# Altium schematic symbol library 10AS066H2F34I2SG.SchLib: 1 symbol
Pins are listed as number, name and electrical type; pins without a type are passive.

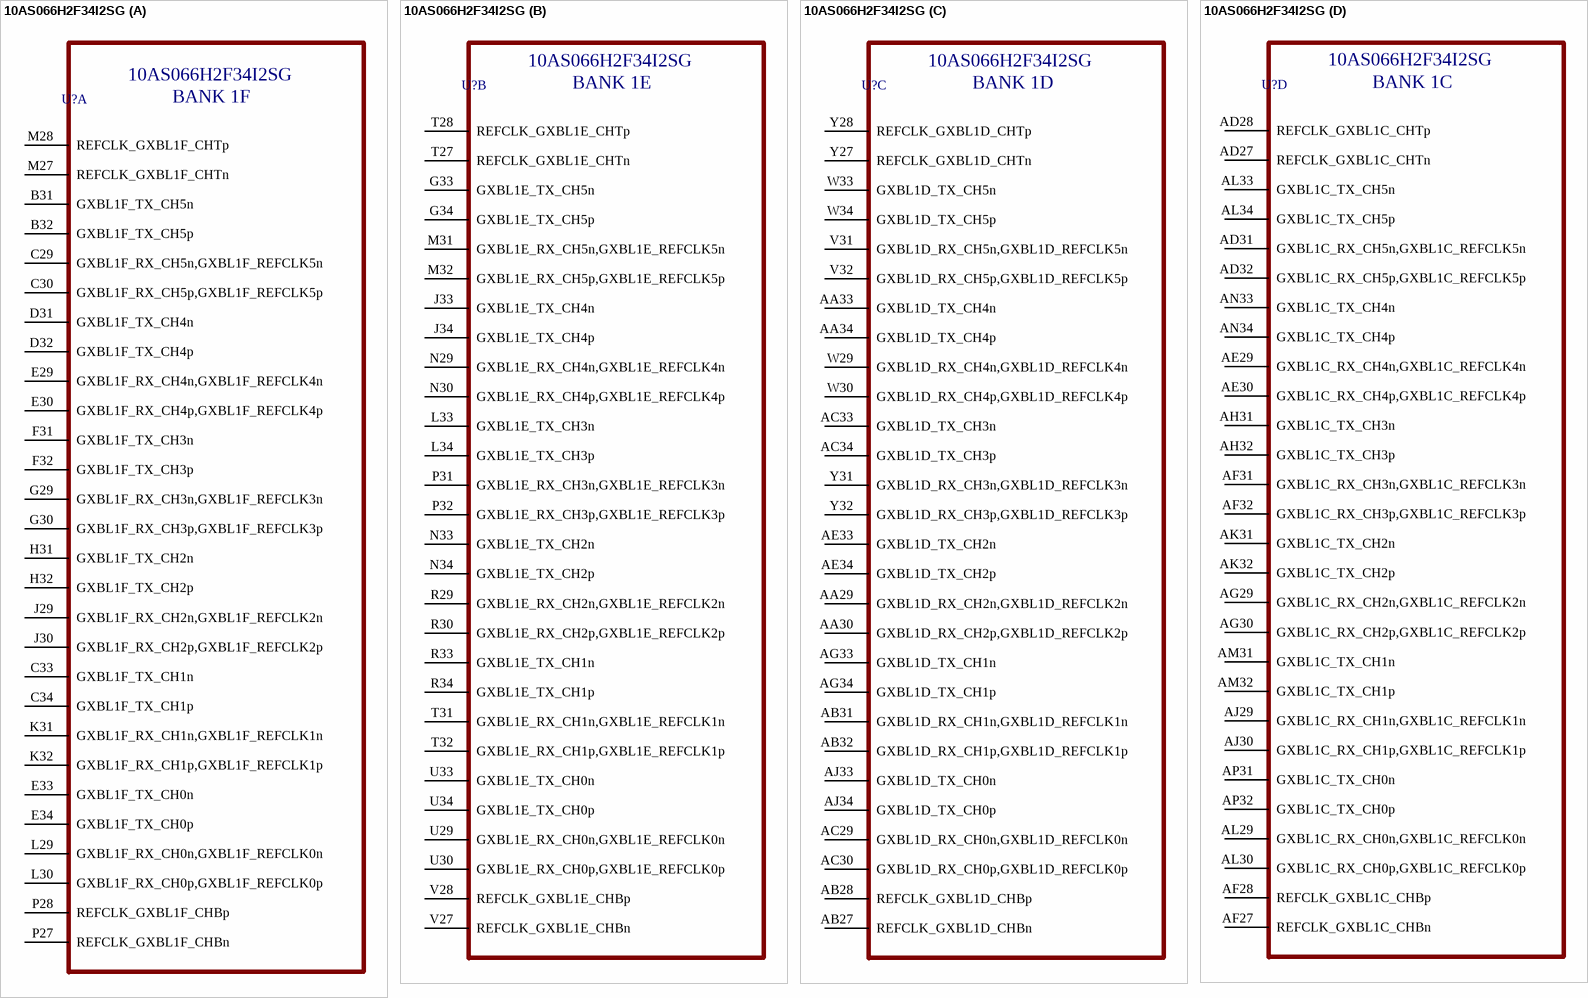
[diagram p0: symbol 10AS066H2F34I2SG]

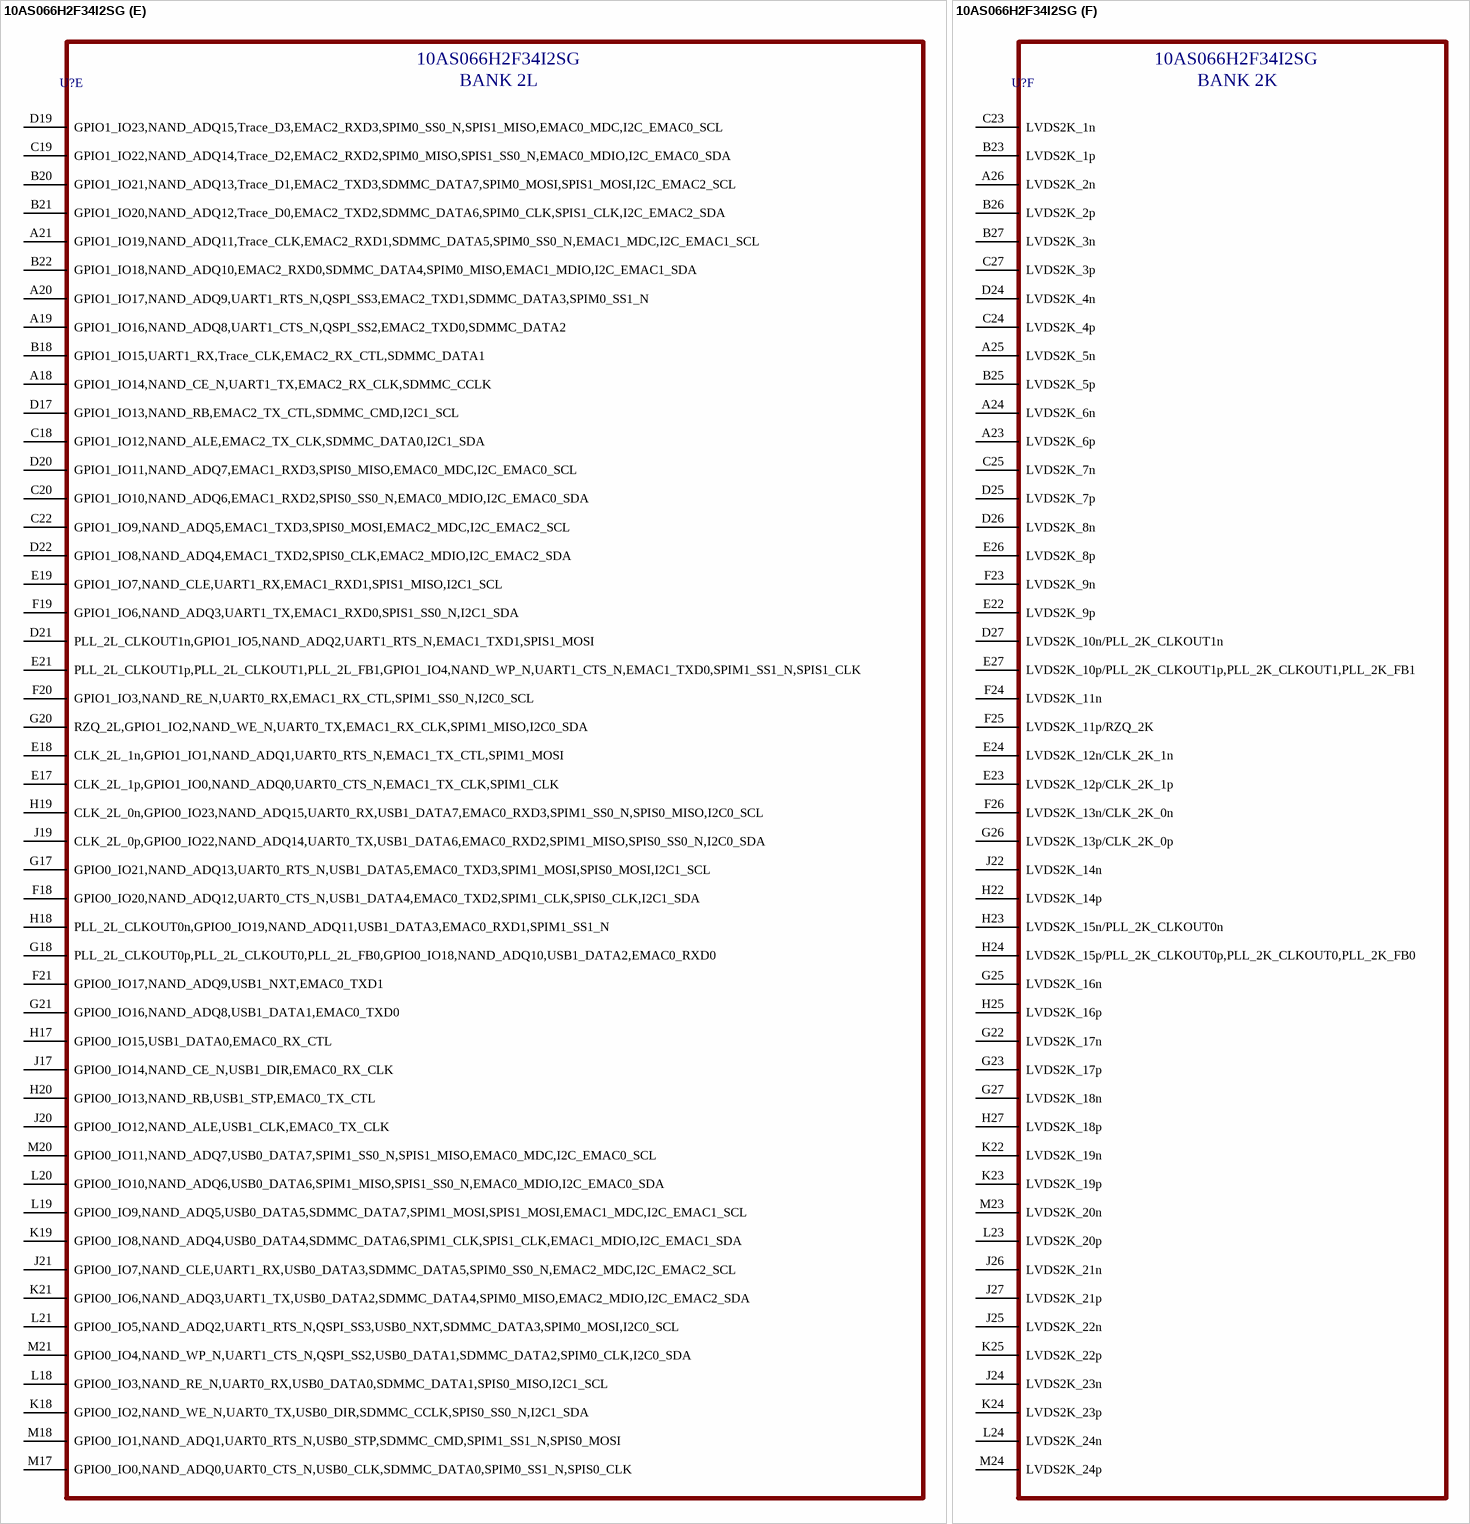
[diagram p1: symbol 10AS066H2F34I2SG]

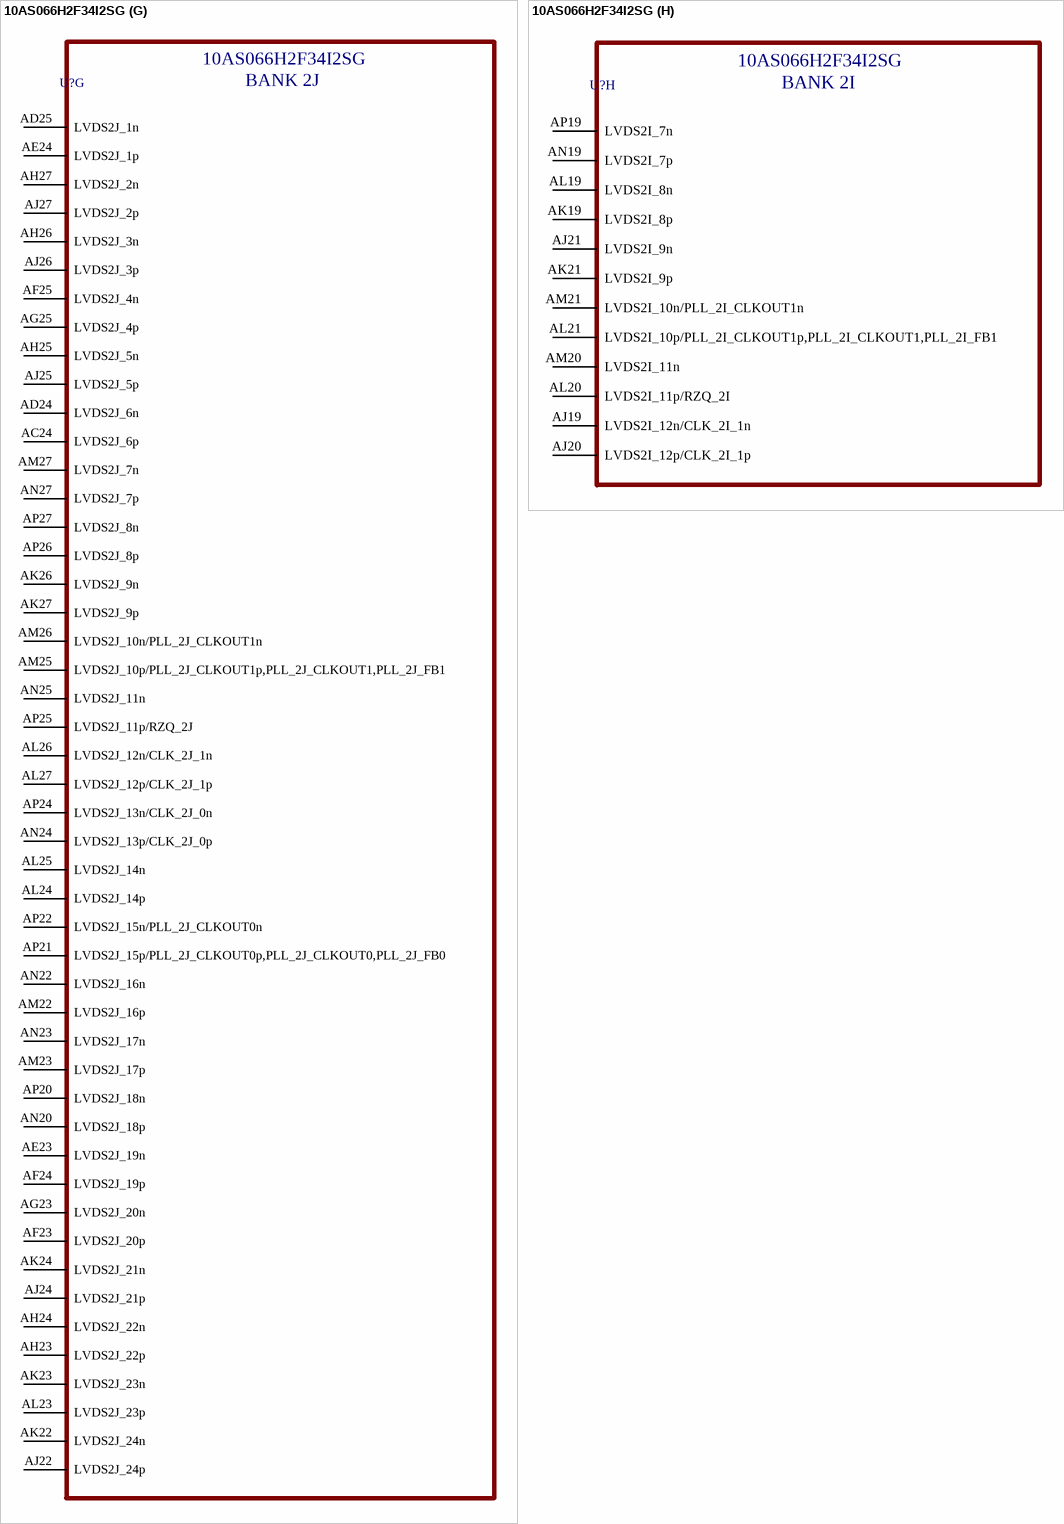
[diagram p2: symbol 10AS066H2F34I2SG]

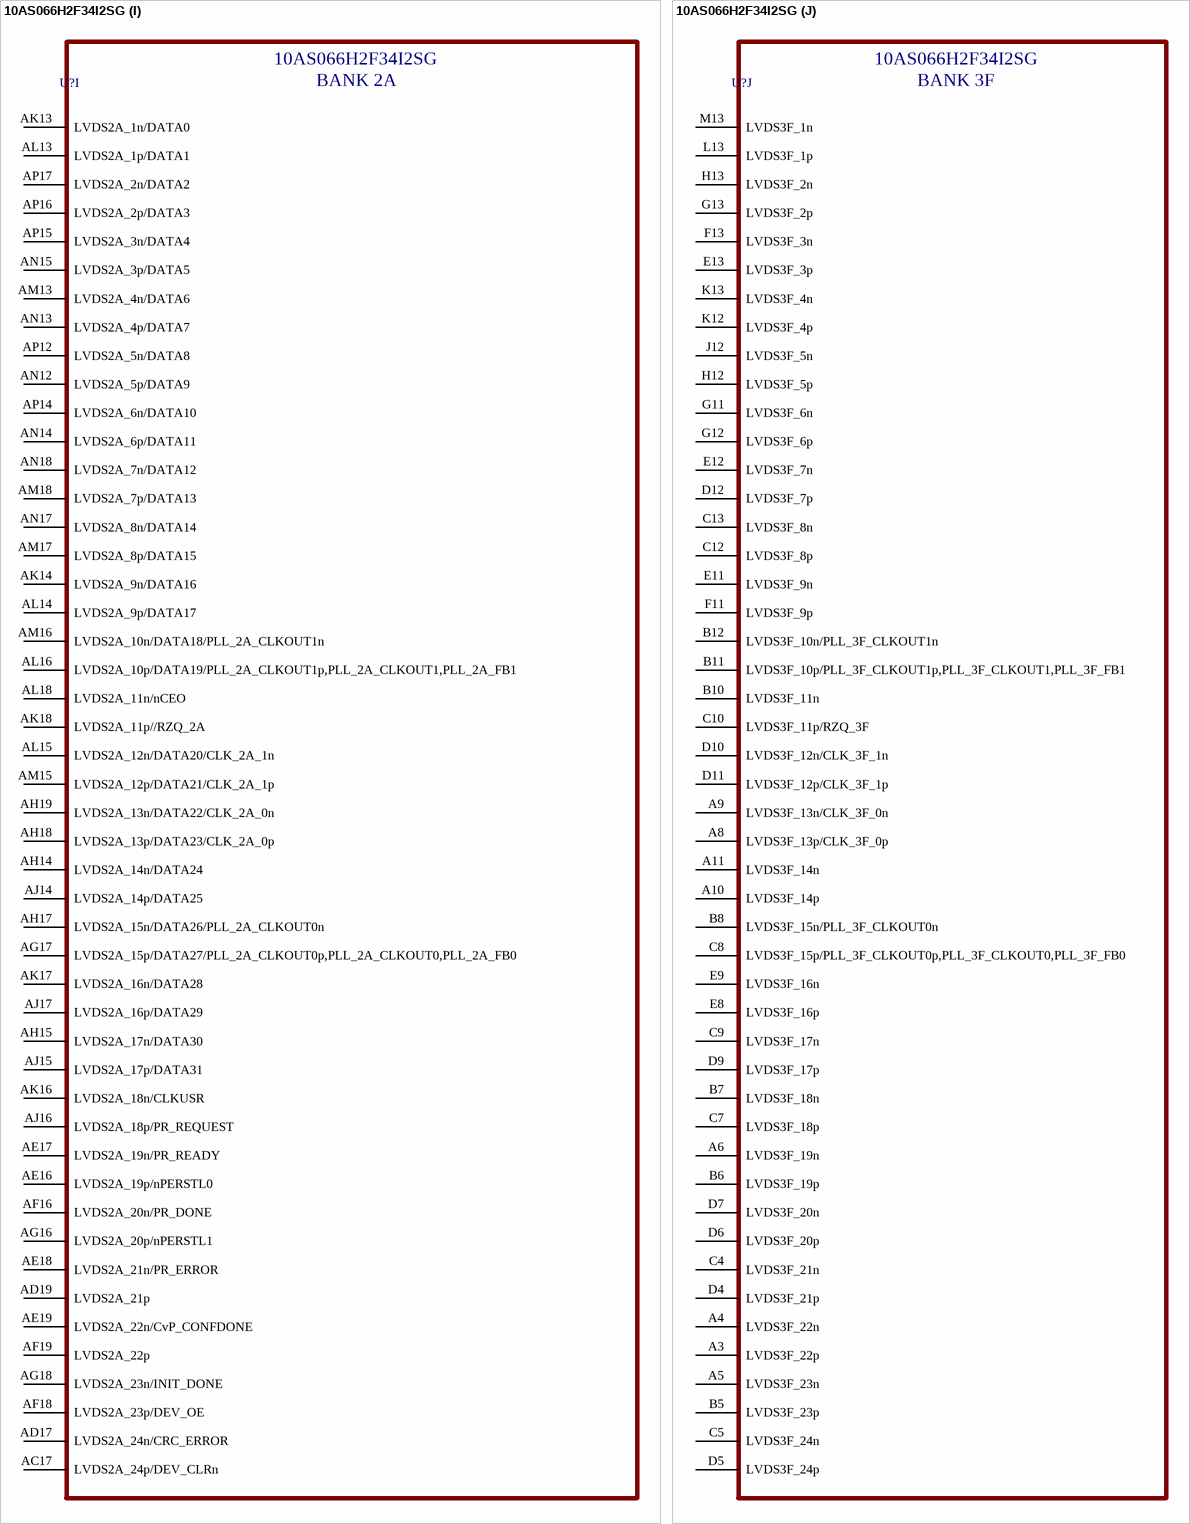
[diagram p3: symbol 10AS066H2F34I2SG]

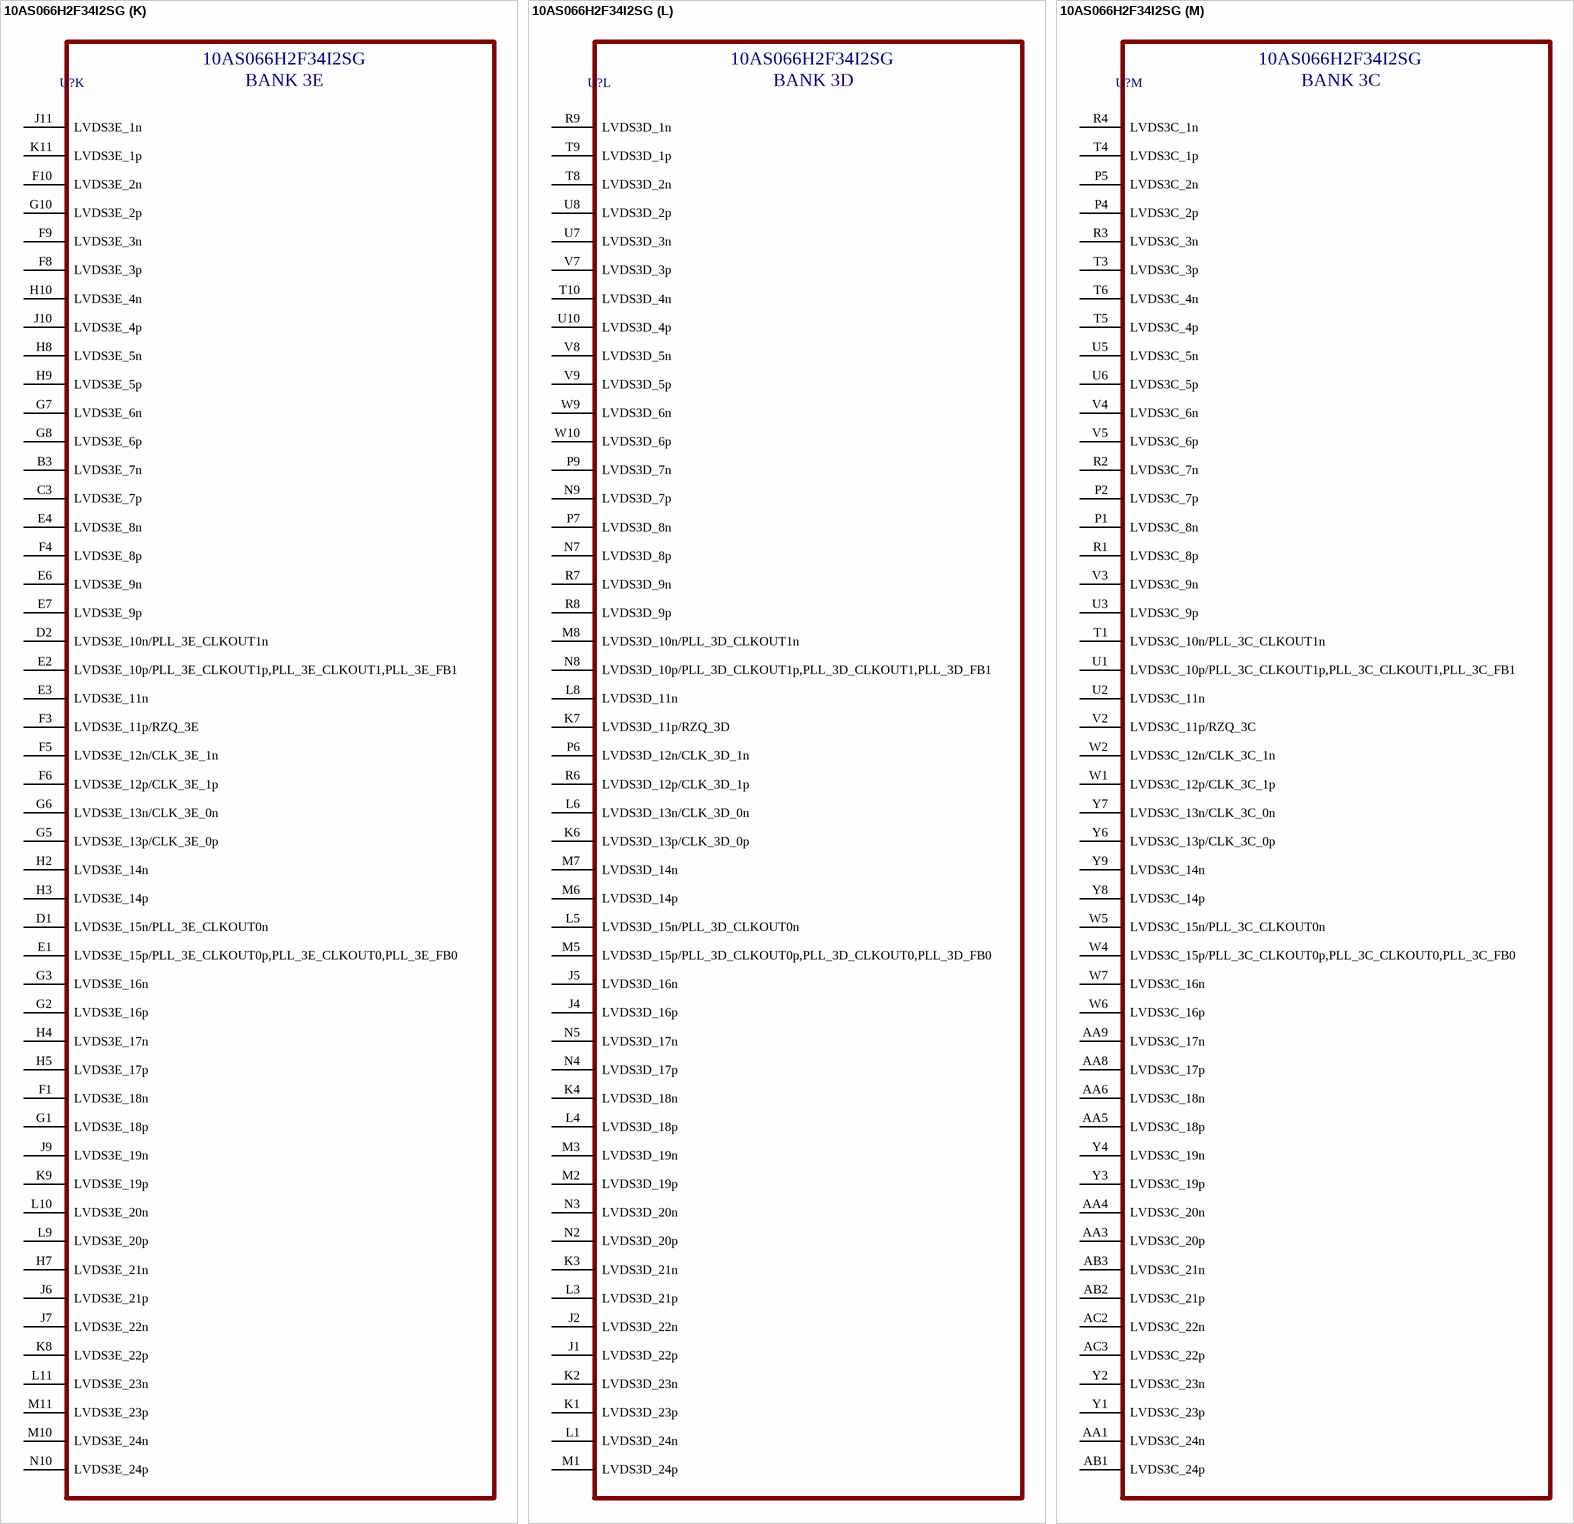
[diagram p4: symbol 10AS066H2F34I2SG]

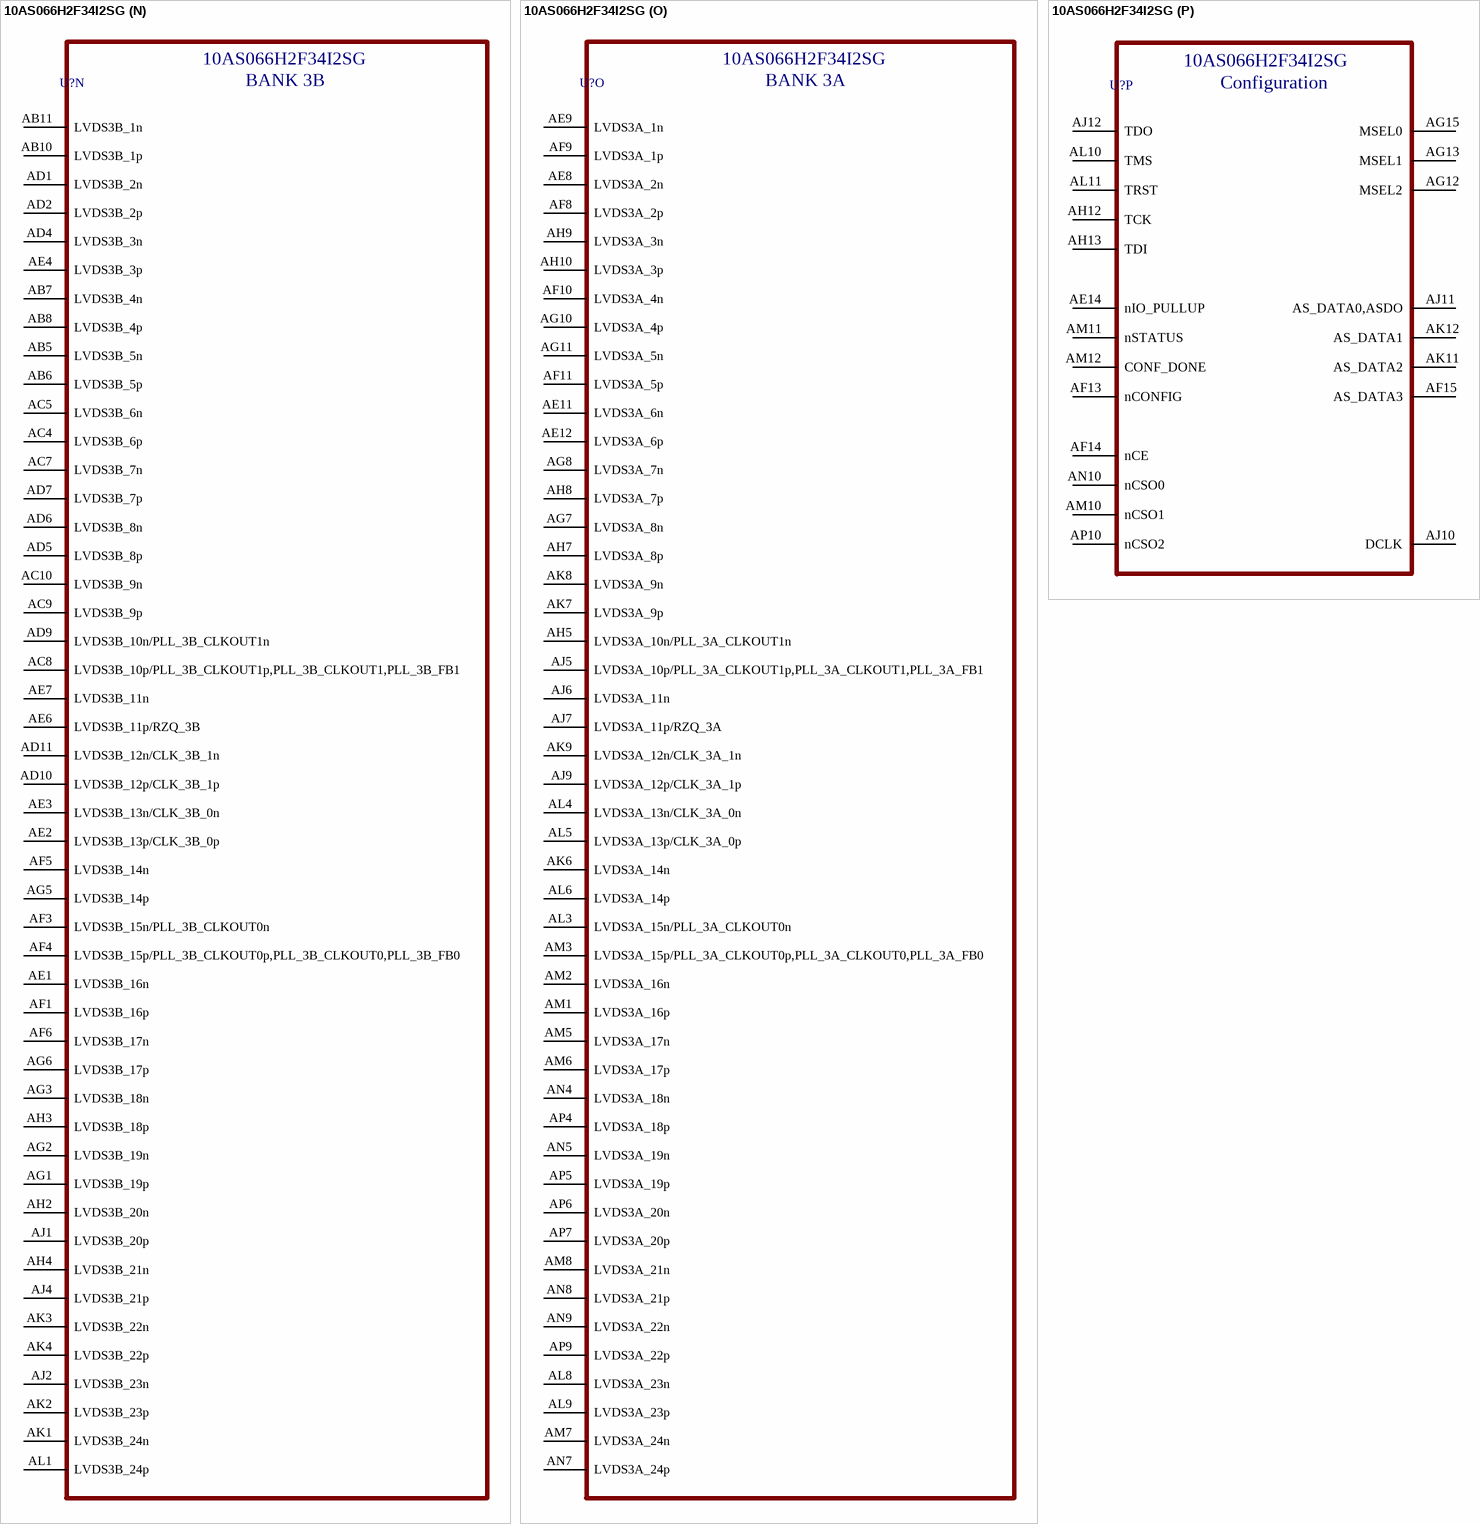
[diagram p5: symbol 10AS066H2F34I2SG]

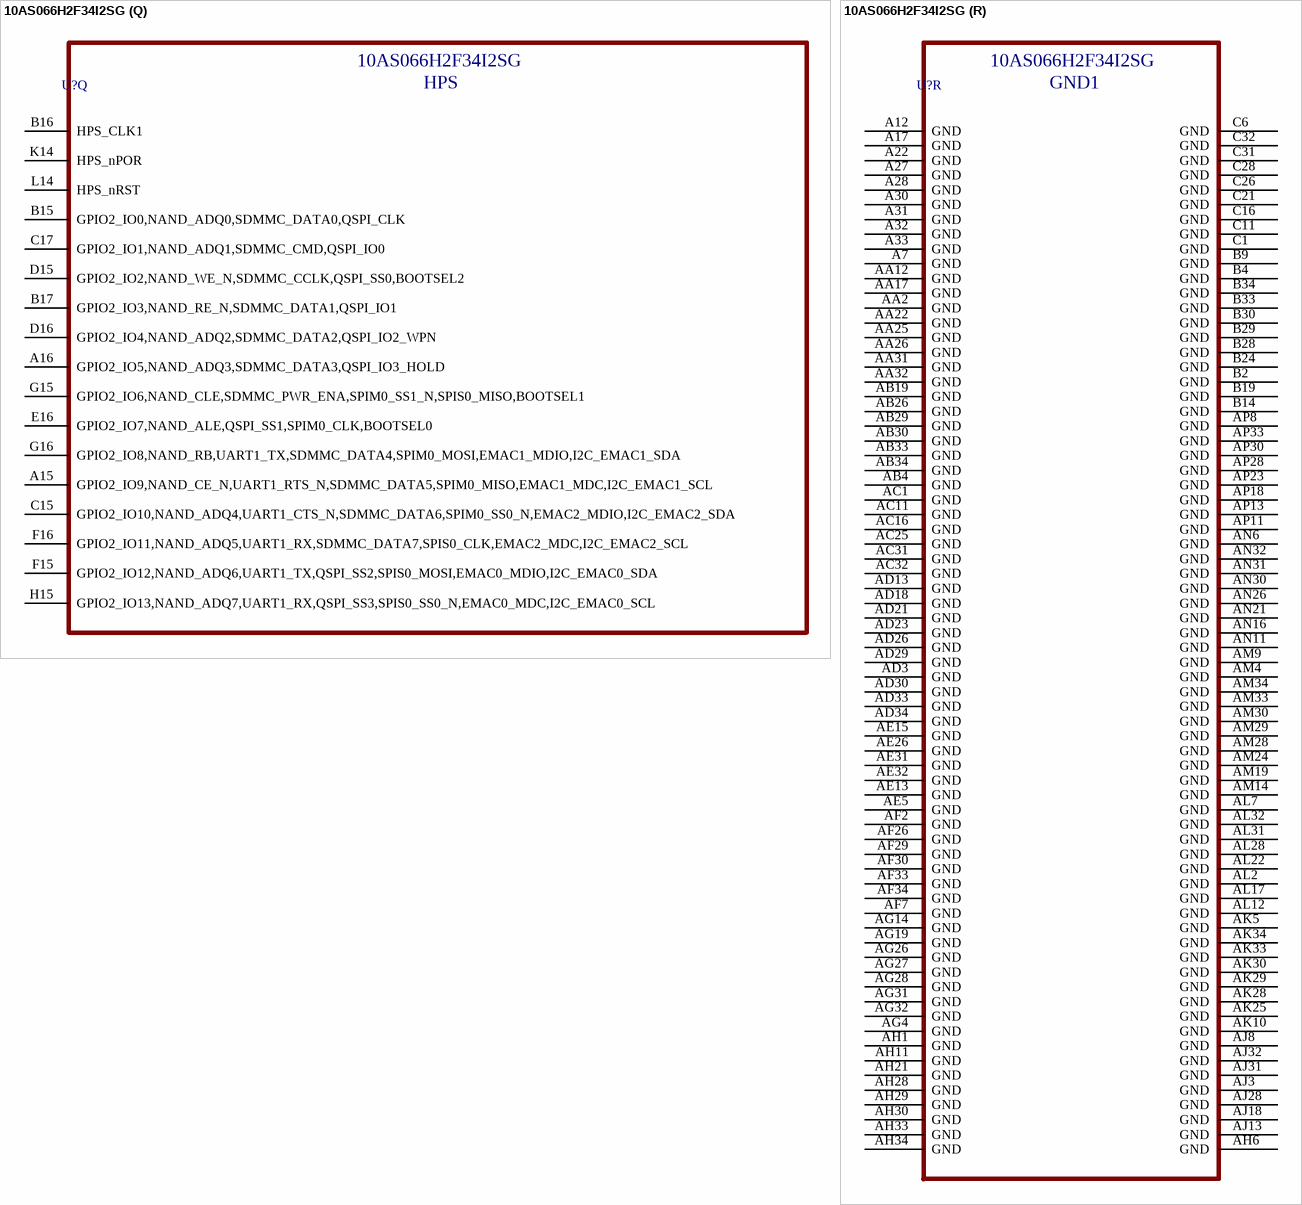
[diagram p6: symbol 10AS066H2F34I2SG]

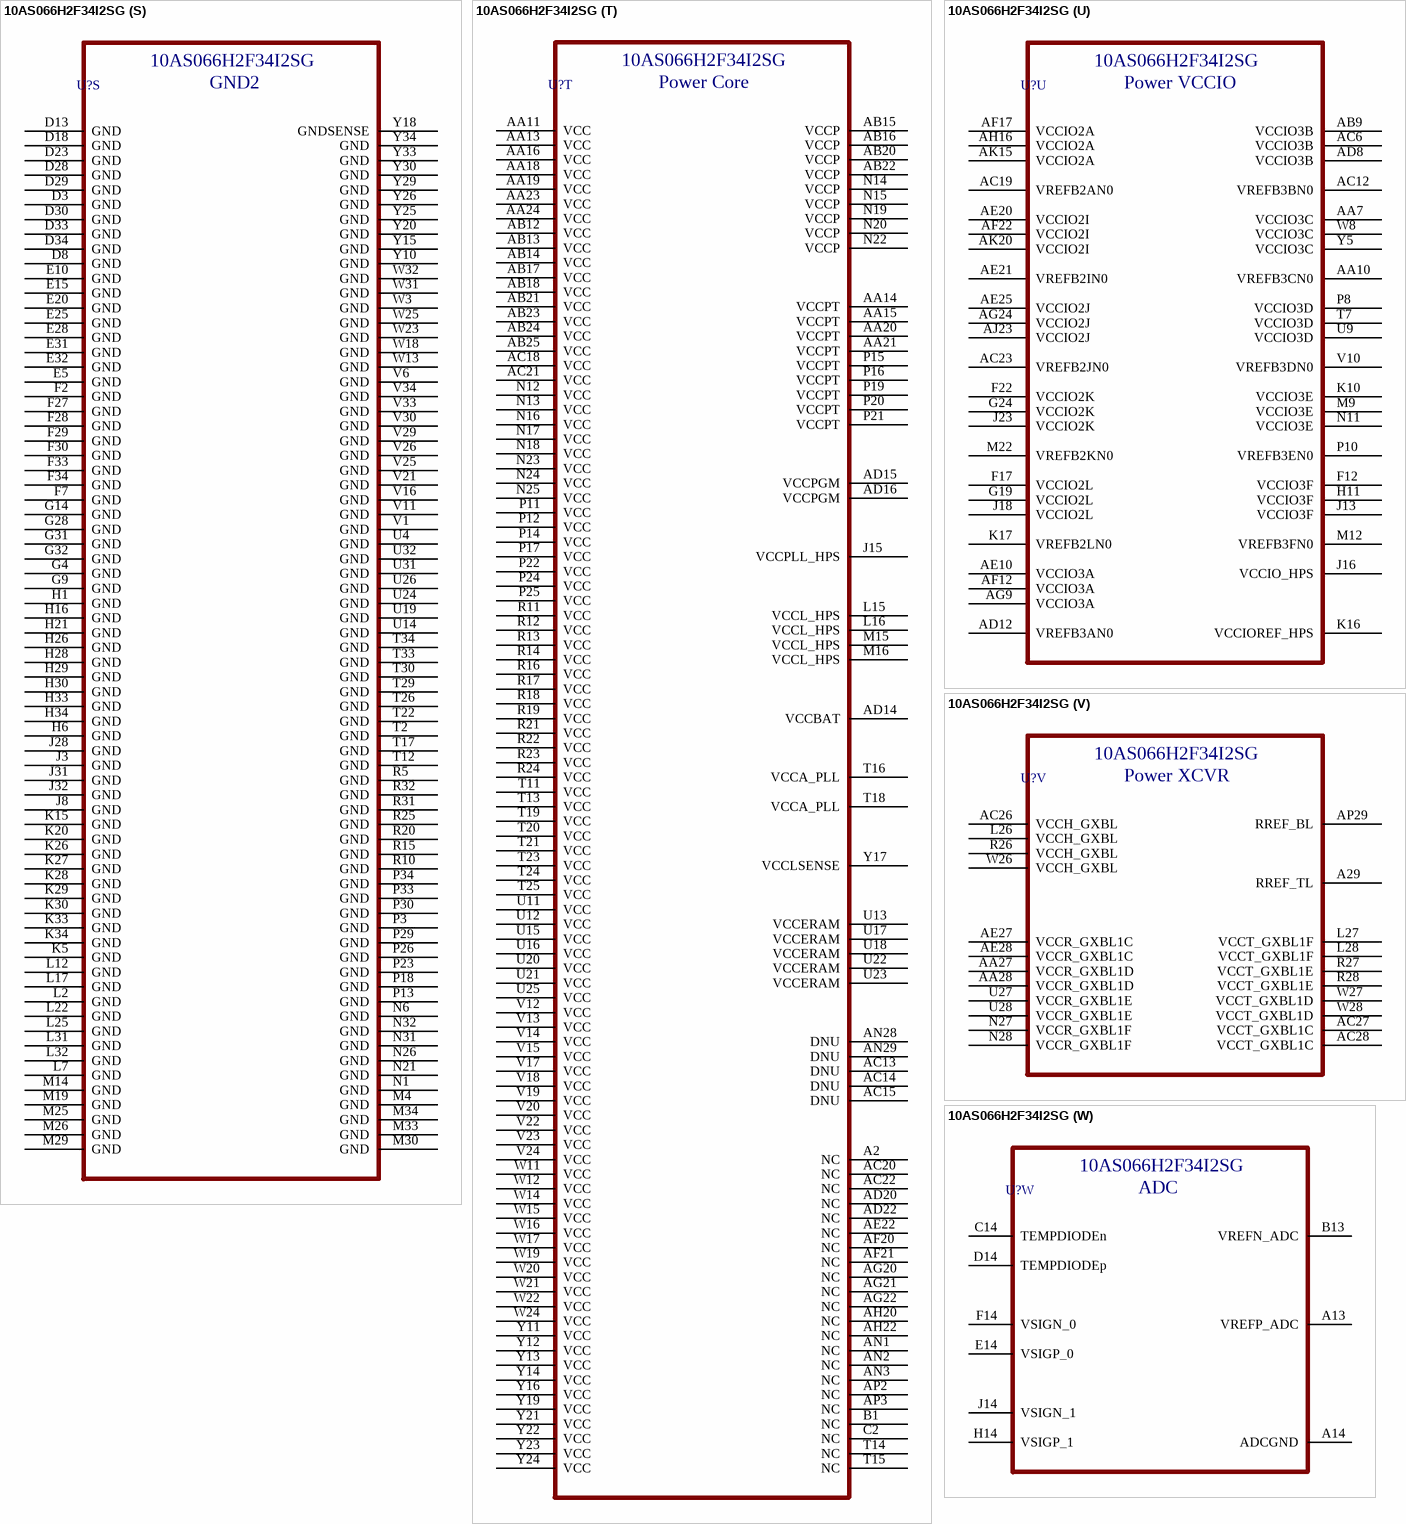
[diagram p7: symbol 10AS066H2F34I2SG]

## 10AS066H2F34I2SG
designator U?
part A pins: B31 GXBL1F_TX_CH5n, B32 GXBL1F_TX_CH5p, C29 GXBL1F_RX_CH5n,GXBL1F_REFCLK5n, C30 GXBL1F_RX_CH5p,GXBL1F_REFCLK5p, C33 GXBL1F_TX_CH1n, C34 GXBL1F_TX_CH1p, D31 GXBL1F_TX_CH4n, D32 GXBL1F_TX_CH4p, E29 GXBL1F_RX_CH4n,GXBL1F_REFCLK4n, E30 GXBL1F_RX_CH4p,GXBL1F_REFCLK4p, E33 GXBL1F_TX_CH0n, E34 GXBL1F_TX_CH0p, F31 GXBL1F_TX_CH3n, F32 GXBL1F_TX_CH3p, G29 GXBL1F_RX_CH3n,GXBL1F_REFCLK3n, G30 GXBL1F_RX_CH3p,GXBL1F_REFCLK3p, H31 GXBL1F_TX_CH2n, H32 GXBL1F_TX_CH2p, J29 GXBL1F_RX_CH2n,GXBL1F_REFCLK2n, J30 GXBL1F_RX_CH2p,GXBL1F_REFCLK2p, K31 GXBL1F_RX_CH1n,GXBL1F_REFCLK1n, K32 GXBL1F_RX_CH1p,GXBL1F_REFCLK1p, L29 GXBL1F_RX_CH0n,GXBL1F_REFCLK0n, L30 GXBL1F_RX_CH0p,GXBL1F_REFCLK0p, M27 REFCLK_GXBL1F_CHTn, M28 REFCLK_GXBL1F_CHTp, P27 REFCLK_GXBL1F_CHBn, P28 REFCLK_GXBL1F_CHBp
part B pins: G33 GXBL1E_TX_CH5n, G34 GXBL1E_TX_CH5p, J33 GXBL1E_TX_CH4n, J34 GXBL1E_TX_CH4p, L33 GXBL1E_TX_CH3n, L34 GXBL1E_TX_CH3p, M31 GXBL1E_RX_CH5n,GXBL1E_REFCLK5n, M32 GXBL1E_RX_CH5p,GXBL1E_REFCLK5p, N29 GXBL1E_RX_CH4n,GXBL1E_REFCLK4n, N30 GXBL1E_RX_CH4p,GXBL1E_REFCLK4p, N33 GXBL1E_TX_CH2n, N34 GXBL1E_TX_CH2p, P31 GXBL1E_RX_CH3n,GXBL1E_REFCLK3n, P32 GXBL1E_RX_CH3p,GXBL1E_REFCLK3p, R29 GXBL1E_RX_CH2n,GXBL1E_REFCLK2n, R30 GXBL1E_RX_CH2p,GXBL1E_REFCLK2p, R33 GXBL1E_TX_CH1n, R34 GXBL1E_TX_CH1p, T27 REFCLK_GXBL1E_CHTn, T28 REFCLK_GXBL1E_CHTp, T31 GXBL1E_RX_CH1n,GXBL1E_REFCLK1n, T32 GXBL1E_RX_CH1p,GXBL1E_REFCLK1p, U29 GXBL1E_RX_CH0n,GXBL1E_REFCLK0n, U30 GXBL1E_RX_CH0p,GXBL1E_REFCLK0p, U33 GXBL1E_TX_CH0n, U34 GXBL1E_TX_CH0p, V27 REFCLK_GXBL1E_CHBn, V28 REFCLK_GXBL1E_CHBp
part C pins: AA29 GXBL1D_RX_CH2n,GXBL1D_REFCLK2n, AA30 GXBL1D_RX_CH2p,GXBL1D_REFCLK2p, AA33 GXBL1D_TX_CH4n, AA34 GXBL1D_TX_CH4p, AB27 REFCLK_GXBL1D_CHBn, AB28 REFCLK_GXBL1D_CHBp, AB31 GXBL1D_RX_CH1n,GXBL1D_REFCLK1n, AB32 GXBL1D_RX_CH1p,GXBL1D_REFCLK1p, AC29 GXBL1D_RX_CH0n,GXBL1D_REFCLK0n, AC30 GXBL1D_RX_CH0p,GXBL1D_REFCLK0p, AC33 GXBL1D_TX_CH3n, AC34 GXBL1D_TX_CH3p, AE33 GXBL1D_TX_CH2n, AE34 GXBL1D_TX_CH2p, AG33 GXBL1D_TX_CH1n, AG34 GXBL1D_TX_CH1p, AJ33 GXBL1D_TX_CH0n, AJ34 GXBL1D_TX_CH0p, V31 GXBL1D_RX_CH5n,GXBL1D_REFCLK5n, V32 GXBL1D_RX_CH5p,GXBL1D_REFCLK5p, W29 GXBL1D_RX_CH4n,GXBL1D_REFCLK4n, W30 GXBL1D_RX_CH4p,GXBL1D_REFCLK4p, W33 GXBL1D_TX_CH5n, W34 GXBL1D_TX_CH5p, Y27 REFCLK_GXBL1D_CHTn, Y28 REFCLK_GXBL1D_CHTp, Y31 GXBL1D_RX_CH3n,GXBL1D_REFCLK3n, Y32 GXBL1D_RX_CH3p,GXBL1D_REFCLK3p
part D pins: AD27 REFCLK_GXBL1C_CHTn, AD28 REFCLK_GXBL1C_CHTp, AD31 GXBL1C_RX_CH5n,GXBL1C_REFCLK5n, AD32 GXBL1C_RX_CH5p,GXBL1C_REFCLK5p, AE29 GXBL1C_RX_CH4n,GXBL1C_REFCLK4n, AE30 GXBL1C_RX_CH4p,GXBL1C_REFCLK4p, AF27 REFCLK_GXBL1C_CHBn, AF28 REFCLK_GXBL1C_CHBp, AF31 GXBL1C_RX_CH3n,GXBL1C_REFCLK3n, AF32 GXBL1C_RX_CH3p,GXBL1C_REFCLK3p, AG29 GXBL1C_RX_CH2n,GXBL1C_REFCLK2n, AG30 GXBL1C_RX_CH2p,GXBL1C_REFCLK2p, AH31 GXBL1C_TX_CH3n, AH32 GXBL1C_TX_CH3p, AJ29 GXBL1C_RX_CH1n,GXBL1C_REFCLK1n, AJ30 GXBL1C_RX_CH1p,GXBL1C_REFCLK1p, AK31 GXBL1C_TX_CH2n, AK32 GXBL1C_TX_CH2p, AL29 GXBL1C_RX_CH0n,GXBL1C_REFCLK0n, AL30 GXBL1C_RX_CH0p,GXBL1C_REFCLK0p, AL33 GXBL1C_TX_CH5n, AL34 GXBL1C_TX_CH5p, AM31 GXBL1C_TX_CH1n, AM32 GXBL1C_TX_CH1p, AN33 GXBL1C_TX_CH4n, AN34 GXBL1C_TX_CH4p, AP31 GXBL1C_TX_CH0n, AP32 GXBL1C_TX_CH0p
part E pins: A18 GPIO1_IO14,NAND_CE_N,UART1_TX,EMAC2_RX_CLK,SDMMC_CCLK, A19 GPIO1_IO16,NAND_ADQ8,UART1_CTS_N,QSPI_SS2,EMAC2_TXD0,SDMMC_DATA2, A20 GPIO1_IO17,NAND_ADQ9,UART1_RTS_N,QSPI_SS3,EMAC2_TXD1,SDMMC_DATA3,SPIM0_SS1_N, A21 GPIO1_IO19,NAND_ADQ11,Trace_CLK,EMAC2_RXD1,SDMMC_DATA5,SPIM0_SS0_N,EMAC1_MDC,I2C_EMAC1_SCL, B18 GPIO1_IO15,UART1_RX,Trace_CLK,EMAC2_RX_CTL,SDMMC_DATA1, B20 GPIO1_IO21,NAND_ADQ13,Trace_D1,EMAC2_TXD3,SDMMC_DATA7,SPIM0_MOSI,SPIS1_MOSI,I2C_EMAC2_SCL, B21 GPIO1_IO20,NAND_ADQ12,Trace_D0,EMAC2_TXD2,SDMMC_DATA6,SPIM0_CLK,SPIS1_CLK,I2C_EMAC2_SDA, B22 GPIO1_IO18,NAND_ADQ10,EMAC2_RXD0,SDMMC_DATA4,SPIM0_MISO,EMAC1_MDIO,I2C_EMAC1_SDA, C18 GPIO1_IO12,NAND_ALE,EMAC2_TX_CLK,SDMMC_DATA0,I2C1_SDA, C19 GPIO1_IO22,NAND_ADQ14,Trace_D2,EMAC2_RXD2,SPIM0_MISO,SPIS1_SS0_N,EMAC0_MDIO,I2C_EMAC0_SDA, C20 GPIO1_IO10,NAND_ADQ6,EMAC1_RXD2,SPIS0_SS0_N,EMAC0_MDIO,I2C_EMAC0_SDA, C22 GPIO1_IO9,NAND_ADQ5,EMAC1_TXD3,SPIS0_MOSI,EMAC2_MDC,I2C_EMAC2_SCL, D17 GPIO1_IO13,NAND_RB,EMAC2_TX_CTL,SDMMC_CMD,I2C1_SCL, D19 GPIO1_IO23,NAND_ADQ15,Trace_D3,EMAC2_RXD3,SPIM0_SS0_N,SPIS1_MISO,EMAC0_MDC,I2C_EMAC0_SCL, D20 GPIO1_IO11,NAND_ADQ7,EMAC1_RXD3,SPIS0_MISO,EMAC0_MDC,I2C_EMAC0_SCL, D21 PLL_2L_CLKOUT1n,GPIO1_IO5,NAND_ADQ2,UART1_RTS_N,EMAC1_TXD1,SPIS1_MOSI, D22 GPIO1_IO8,NAND_ADQ4,EMAC1_TXD2,SPIS0_CLK,EMAC2_MDIO,I2C_EMAC2_SDA, E17 CLK_2L_1p,GPIO1_IO0,NAND_ADQ0,UART0_CTS_N,EMAC1_TX_CLK,SPIM1_CLK, E18 CLK_2L_1n,GPIO1_IO1,NAND_ADQ1,UART0_RTS_N,EMAC1_TX_CTL,SPIM1_MOSI, E19 GPIO1_IO7,NAND_CLE,UART1_RX,EMAC1_RXD1,SPIS1_MISO,I2C1_SCL, E21 PLL_2L_CLKOUT1p,PLL_2L_CLKOUT1,PLL_2L_FB1,GPIO1_IO4,NAND_WP_N,UART1_CTS_N,EMAC1_TXD0,SPIM1_SS1_N,SPIS1_CLK, F18 GPIO0_IO20,NAND_ADQ12,UART0_CTS_N,USB1_DATA4,EMAC0_TXD2,SPIM1_CLK,SPIS0_CLK,I2C1_SDA, F19 GPIO1_IO6,NAND_ADQ3,UART1_TX,EMAC1_RXD0,SPIS1_SS0_N,I2C1_SDA, F20 GPIO1_IO3,NAND_RE_N,UART0_RX,EMAC1_RX_CTL,SPIM1_SS0_N,I2C0_SCL, F21 GPIO0_IO17,NAND_ADQ9,USB1_NXT,EMAC0_TXD1, G17 GPIO0_IO21,NAND_ADQ13,UART0_RTS_N,USB1_DATA5,EMAC0_TXD3,SPIM1_MOSI,SPIS0_MOSI,I2C1_SCL, G18 PLL_2L_CLKOUT0p,PLL_2L_CLKOUT0,PLL_2L_FB0,GPIO0_IO18,NAND_ADQ10,USB1_DATA2,EMAC0_RXD0, G20 RZQ_2L,GPIO1_IO2,NAND_WE_N,UART0_TX,EMAC1_RX_CLK,SPIM1_MISO,I2C0_SDA, G21 GPIO0_IO16,NAND_ADQ8,USB1_DATA1,EMAC0_TXD0, H17 GPIO0_IO15,USB1_DATA0,EMAC0_RX_CTL, H18 PLL_2L_CLKOUT0n,GPIO0_IO19,NAND_ADQ11,USB1_DATA3,EMAC0_RXD1,SPIM1_SS1_N, H19 CLK_2L_0n,GPIO0_IO23,NAND_ADQ15,UART0_RX,USB1_DATA7,EMAC0_RXD3,SPIM1_SS0_N,SPIS0_MISO,I2C0_SCL, H20 GPIO0_IO13,NAND_RB,USB1_STP,EMAC0_TX_CTL, J17 GPIO0_IO14,NAND_CE_N,USB1_DIR,EMAC0_RX_CLK, J19 CLK_2L_0p,GPIO0_IO22,NAND_ADQ14,UART0_TX,USB1_DATA6,EMAC0_RXD2,SPIM1_MISO,SPIS0_SS0_N,I2C0_SDA, J20 GPIO0_IO12,NAND_ALE,USB1_CLK,EMAC0_TX_CLK, J21 GPIO0_IO7,NAND_CLE,UART1_RX,USB0_DATA3,SDMMC_DATA5,SPIM0_SS0_N,EMAC2_MDC,I2C_EMAC2_SCL, K18 GPIO0_IO2,NAND_WE_N,UART0_TX,USB0_DIR,SDMMC_CCLK,SPIS0_SS0_N,I2C1_SDA, K19 GPIO0_IO8,NAND_ADQ4,USB0_DATA4,SDMMC_DATA6,SPIM1_CLK,SPIS1_CLK,EMAC1_MDIO,I2C_EMAC1_SDA, K21 GPIO0_IO6,NAND_ADQ3,UART1_TX,USB0_DATA2,SDMMC_DATA4,SPIM0_MISO,EMAC2_MDIO,I2C_EMAC2_SDA, L18 GPIO0_IO3,NAND_RE_N,UART0_RX,USB0_DATA0,SDMMC_DATA1,SPIS0_MISO,I2C1_SCL, L19 GPIO0_IO9,NAND_ADQ5,USB0_DATA5,SDMMC_DATA7,SPIM1_MOSI,SPIS1_MOSI,EMAC1_MDC,I2C_EMAC1_SCL, L20 GPIO0_IO10,NAND_ADQ6,USB0_DATA6,SPIM1_MISO,SPIS1_SS0_N,EMAC0_MDIO,I2C_EMAC0_SDA, L21 GPIO0_IO5,NAND_ADQ2,UART1_RTS_N,QSPI_SS3,USB0_NXT,SDMMC_DATA3,SPIM0_MOSI,I2C0_SCL, M17 GPIO0_IO0,NAND_ADQ0,UART0_CTS_N,USB0_CLK,SDMMC_DATA0,SPIM0_SS1_N,SPIS0_CLK, M18 GPIO0_IO1,NAND_ADQ1,UART0_RTS_N,USB0_STP,SDMMC_CMD,SPIM1_SS1_N,SPIS0_MOSI, M20 GPIO0_IO11,NAND_ADQ7,USB0_DATA7,SPIM1_SS0_N,SPIS1_MISO,EMAC0_MDC,I2C_EMAC0_SCL, M21 GPIO0_IO4,NAND_WP_N,UART1_CTS_N,QSPI_SS2,USB0_DATA1,SDMMC_DATA2,SPIM0_CLK,I2C0_SDA
part F pins: A23 LVDS2K_6p, A24 LVDS2K_6n, A25 LVDS2K_5n, A26 LVDS2K_2n, B23 LVDS2K_1p, B25 LVDS2K_5p, B26 LVDS2K_2p, B27 LVDS2K_3n, C23 LVDS2K_1n, C24 LVDS2K_4p, C25 LVDS2K_7n, C27 LVDS2K_3p, D24 LVDS2K_4n, D25 LVDS2K_7p, D26 LVDS2K_8n, D27 LVDS2K_10n/PLL_2K_CLKOUT1n, E22 LVDS2K_9p, E23 LVDS2K_12p/CLK_2K_1p, E24 LVDS2K_12n/CLK_2K_1n, E26 LVDS2K_8p, E27 LVDS2K_10p/PLL_2K_CLKOUT1p,PLL_2K_CLKOUT1,PLL_2K_FB1, F23 LVDS2K_9n, F24 LVDS2K_11n, F25 LVDS2K_11p/RZQ_2K, F26 LVDS2K_13n/CLK_2K_0n, G22 LVDS2K_17n, G23 LVDS2K_17p, G25 LVDS2K_16n, G26 LVDS2K_13p/CLK_2K_0p, G27 LVDS2K_18n, H22 LVDS2K_14p, H23 LVDS2K_15n/PLL_2K_CLKOUT0n, H24 LVDS2K_15p/PLL_2K_CLKOUT0p,PLL_2K_CLKOUT0,PLL_2K_FB0, H25 LVDS2K_16p, H27 LVDS2K_18p, J22 LVDS2K_14n, J24 LVDS2K_23n, J25 LVDS2K_22n, J26 LVDS2K_21n, J27 LVDS2K_21p, K22 LVDS2K_19n, K23 LVDS2K_19p, K24 LVDS2K_23p, K25 LVDS2K_22p, L23 LVDS2K_20p, L24 LVDS2K_24n, M23 LVDS2K_20n, M24 LVDS2K_24p
part G pins: AC24 LVDS2J_6p, AD24 LVDS2J_6n, AD25 LVDS2J_1n, AE23 LVDS2J_19n, AE24 LVDS2J_1p, AF23 LVDS2J_20p, AF24 LVDS2J_19p, AF25 LVDS2J_4n, AG23 LVDS2J_20n, AG25 LVDS2J_4p, AH23 LVDS2J_22p, AH24 LVDS2J_22n, AH25 LVDS2J_5n, AH26 LVDS2J_3n, AH27 LVDS2J_2n, AJ22 LVDS2J_24p, AJ24 LVDS2J_21p, AJ25 LVDS2J_5p, AJ26 LVDS2J_3p, AJ27 LVDS2J_2p, AK22 LVDS2J_24n, AK23 LVDS2J_23n, AK24 LVDS2J_21n, AK26 LVDS2J_9n, AK27 LVDS2J_9p, AL23 LVDS2J_23p, AL24 LVDS2J_14p, AL25 LVDS2J_14n, AL26 LVDS2J_12n/CLK_2J_1n, AL27 LVDS2J_12p/CLK_2J_1p, AM22 LVDS2J_16p, AM23 LVDS2J_17p, AM25 LVDS2J_10p/PLL_2J_CLKOUT1p,PLL_2J_CLKOUT1,PLL_2J_FB1, AM26 LVDS2J_10n/PLL_2J_CLKOUT1n, AM27 LVDS2J_7n, AN20 LVDS2J_18p, AN22 LVDS2J_16n, AN23 LVDS2J_17n, AN24 LVDS2J_13p/CLK_2J_0p, AN25 LVDS2J_11n, AN27 LVDS2J_7p, AP20 LVDS2J_18n, AP21 LVDS2J_15p/PLL_2J_CLKOUT0p,PLL_2J_CLKOUT0,PLL_2J_FB0, AP22 LVDS2J_15n/PLL_2J_CLKOUT0n, AP24 LVDS2J_13n/CLK_2J_0n, AP25 LVDS2J_11p/RZQ_2J, AP26 LVDS2J_8p, AP27 LVDS2J_8n
part H pins: AJ19 LVDS2I_12n/CLK_2I_1n, AJ20 LVDS2I_12p/CLK_2I_1p, AJ21 LVDS2I_9n, AK19 LVDS2I_8p, AK21 LVDS2I_9p, AL19 LVDS2I_8n, AL20 LVDS2I_11p/RZQ_2I, AL21 LVDS2I_10p/PLL_2I_CLKOUT1p,PLL_2I_CLKOUT1,PLL_2I_FB1, AM20 LVDS2I_11n, AM21 LVDS2I_10n/PLL_2I_CLKOUT1n, AN19 LVDS2I_7p, AP19 LVDS2I_7n
part I pins: AC17 LVDS2A_24p/DEV_CLRn, AD17 LVDS2A_24n/CRC_ERROR, AD19 LVDS2A_21p, AE16 LVDS2A_19p/nPERSTL0, AE17 LVDS2A_19n/PR_READY, AE18 LVDS2A_21n/PR_ERROR, AE19 LVDS2A_22n/CvP_CONFDONE, AF16 LVDS2A_20n/PR_DONE, AF18 LVDS2A_23p/DEV_OE, AF19 LVDS2A_22p, AG16 LVDS2A_20p/nPERSTL1, AG17 LVDS2A_15p/DATA27/PLL_2A_CLKOUT0p,PLL_2A_CLKOUT0,PLL_2A_FB0, AG18 LVDS2A_23n/INIT_DONE, AH14 LVDS2A_14n/DATA24, AH15 LVDS2A_17n/DATA30, AH17 LVDS2A_15n/DATA26/PLL_2A_CLKOUT0n, AH18 LVDS2A_13p/DATA23/CLK_2A_0p, AH19 LVDS2A_13n/DATA22/CLK_2A_0n, AJ14 LVDS2A_14p/DATA25, AJ15 LVDS2A_17p/DATA31, AJ16 LVDS2A_18p/PR_REQUEST, AJ17 LVDS2A_16p/DATA29, AK13 LVDS2A_1n/DATA0, AK14 LVDS2A_9n/DATA16, AK16 LVDS2A_18n/CLKUSR, AK17 LVDS2A_16n/DATA28, AK18 LVDS2A_11p//RZQ_2A, AL13 LVDS2A_1p/DATA1, AL14 LVDS2A_9p/DATA17, AL15 LVDS2A_12n/DATA20/CLK_2A_1n, AL16 LVDS2A_10p/DATA19/PLL_2A_CLKOUT1p,PLL_2A_CLKOUT1,PLL_2A_FB1, AL18 LVDS2A_11n/nCEO, AM13 LVDS2A_4n/DATA6, AM15 LVDS2A_12p/DATA21/CLK_2A_1p, AM16 LVDS2A_10n/DATA18/PLL_2A_CLKOUT1n, AM17 LVDS2A_8p/DATA15, AM18 LVDS2A_7p/DATA13, AN12 LVDS2A_5p/DATA9, AN13 LVDS2A_4p/DATA7, AN14 LVDS2A_6p/DATA11, AN15 LVDS2A_3p/DATA5, AN17 LVDS2A_8n/DATA14, AN18 LVDS2A_7n/DATA12, AP12 LVDS2A_5n/DATA8, AP14 LVDS2A_6n/DATA10, AP15 LVDS2A_3n/DATA4, AP16 LVDS2A_2p/DATA3, AP17 LVDS2A_2n/DATA2
part J pins: A3 LVDS3F_22p, A4 LVDS3F_22n, A5 LVDS3F_23n, A6 LVDS3F_19n, A8 LVDS3F_13p/CLK_3F_0p, A9 LVDS3F_13n/CLK_3F_0n, A10 LVDS3F_14p, A11 LVDS3F_14n, B5 LVDS3F_23p, B6 LVDS3F_19p, B7 LVDS3F_18n, B8 LVDS3F_15n/PLL_3F_CLKOUT0n, B10 LVDS3F_11n, B11 LVDS3F_10p/PLL_3F_CLKOUT1p,PLL_3F_CLKOUT1,PLL_3F_FB1, B12 LVDS3F_10n/PLL_3F_CLKOUT1n, C4 LVDS3F_21n, C5 LVDS3F_24n, C7 LVDS3F_18p, C8 LVDS3F_15p/PLL_3F_CLKOUT0p,PLL_3F_CLKOUT0,PLL_3F_FB0, C9 LVDS3F_17n, C10 LVDS3F_11p/RZQ_3F, C12 LVDS3F_8p, C13 LVDS3F_8n, D4 LVDS3F_21p, D5 LVDS3F_24p, D6 LVDS3F_20p, D7 LVDS3F_20n, D9 LVDS3F_17p, D10 LVDS3F_12n/CLK_3F_1n, D11 LVDS3F_12p/CLK_3F_1p, D12 LVDS3F_7p, E8 LVDS3F_16p, E9 LVDS3F_16n, E11 LVDS3F_9n, E12 LVDS3F_7n, E13 LVDS3F_3p, F11 LVDS3F_9p, F13 LVDS3F_3n, G11 LVDS3F_6n, G12 LVDS3F_6p, G13 LVDS3F_2p, H12 LVDS3F_5p, H13 LVDS3F_2n, J12 LVDS3F_5n, K12 LVDS3F_4p, K13 LVDS3F_4n, L13 LVDS3F_1p, M13 LVDS3F_1n
part K pins: B3 LVDS3E_7n, C3 LVDS3E_7p, D1 LVDS3E_15n/PLL_3E_CLKOUT0n, D2 LVDS3E_10n/PLL_3E_CLKOUT1n, E1 LVDS3E_15p/PLL_3E_CLKOUT0p,PLL_3E_CLKOUT0,PLL_3E_FB0, E2 LVDS3E_10p/PLL_3E_CLKOUT1p,PLL_3E_CLKOUT1,PLL_3E_FB1, E3 LVDS3E_11n, E4 LVDS3E_8n, E6 LVDS3E_9n, E7 LVDS3E_9p, F1 LVDS3E_18n, F3 LVDS3E_11p/RZQ_3E, F4 LVDS3E_8p, F5 LVDS3E_12n/CLK_3E_1n, F6 LVDS3E_12p/CLK_3E_1p, F8 LVDS3E_3p, F9 LVDS3E_3n, F10 LVDS3E_2n, G1 LVDS3E_18p, G2 LVDS3E_16p, G3 LVDS3E_16n, G5 LVDS3E_13p/CLK_3E_0p, G6 LVDS3E_13n/CLK_3E_0n, G7 LVDS3E_6n, G8 LVDS3E_6p, G10 LVDS3E_2p, H2 LVDS3E_14n, H3 LVDS3E_14p, H4 LVDS3E_17n, H5 LVDS3E_17p, H7 LVDS3E_21n, H8 LVDS3E_5n, H9 LVDS3E_5p, H10 LVDS3E_4n, J6 LVDS3E_21p, J7 LVDS3E_22n, J9 LVDS3E_19n, J10 LVDS3E_4p, J11 LVDS3E_1n, K8 LVDS3E_22p, K9 LVDS3E_19p, K11 LVDS3E_1p, L9 LVDS3E_20p, L10 LVDS3E_20n, L11 LVDS3E_23n, M10 LVDS3E_24n, M11 LVDS3E_23p, N10 LVDS3E_24p
part L pins: J1 LVDS3D_22p, J2 LVDS3D_22n, J4 LVDS3D_16p, J5 LVDS3D_16n, K1 LVDS3D_23p, K2 LVDS3D_23n, K3 LVDS3D_21n, K4 LVDS3D_18n, K6 LVDS3D_13p/CLK_3D_0p, K7 LVDS3D_11p/RZQ_3D, L1 LVDS3D_24n, L3 LVDS3D_21p, L4 LVDS3D_18p, L5 LVDS3D_15n/PLL_3D_CLKOUT0n, L6 LVDS3D_13n/CLK_3D_0n, L8 LVDS3D_11n, M1 LVDS3D_24p, M2 LVDS3D_19p, M3 LVDS3D_19n, M5 LVDS3D_15p/PLL_3D_CLKOUT0p,PLL_3D_CLKOUT0,PLL_3D_FB0, M6 LVDS3D_14p, M7 LVDS3D_14n, M8 LVDS3D_10n/PLL_3D_CLKOUT1n, N2 LVDS3D_20p, N3 LVDS3D_20n, N4 LVDS3D_17p, N5 LVDS3D_17n, N7 LVDS3D_8p, N8 LVDS3D_10p/PLL_3D_CLKOUT1p,PLL_3D_CLKOUT1,PLL_3D_FB1, N9 LVDS3D_7p, P6 LVDS3D_12n/CLK_3D_1n, P7 LVDS3D_8n, P9 LVDS3D_7n, R6 LVDS3D_12p/CLK_3D_1p, R7 LVDS3D_9n, R8 LVDS3D_9p, R9 LVDS3D_1n, T8 LVDS3D_2n, T9 LVDS3D_1p, T10 LVDS3D_4n, U7 LVDS3D_3n, U8 LVDS3D_2p, U10 LVDS3D_4p, V7 LVDS3D_3p, V8 LVDS3D_5n, V9 LVDS3D_5p, W9 LVDS3D_6n, W10 LVDS3D_6p
part M pins: AA1 LVDS3C_24n, AA3 LVDS3C_20p, AA4 LVDS3C_20n, AA5 LVDS3C_18p, AA6 LVDS3C_18n, AA8 LVDS3C_17p, AA9 LVDS3C_17n, AB1 LVDS3C_24p, AB2 LVDS3C_21p, AB3 LVDS3C_21n, AC2 LVDS3C_22n, AC3 LVDS3C_22p, P1 LVDS3C_8n, P2 LVDS3C_7p, P4 LVDS3C_2p, P5 LVDS3C_2n, R1 LVDS3C_8p, R2 LVDS3C_7n, R3 LVDS3C_3n, R4 LVDS3C_1n, T1 LVDS3C_10n/PLL_3C_CLKOUT1n, T3 LVDS3C_3p, T4 LVDS3C_1p, T5 LVDS3C_4p, T6 LVDS3C_4n, U1 LVDS3C_10p/PLL_3C_CLKOUT1p,PLL_3C_CLKOUT1,PLL_3C_FB1, U2 LVDS3C_11n, U3 LVDS3C_9p, U5 LVDS3C_5n, U6 LVDS3C_5p, V2 LVDS3C_11p/RZQ_3C, V3 LVDS3C_9n, V4 LVDS3C_6n, V5 LVDS3C_6p, W1 LVDS3C_12p/CLK_3C_1p, W2 LVDS3C_12n/CLK_3C_1n, W4 LVDS3C_15p/PLL_3C_CLKOUT0p,PLL_3C_CLKOUT0,PLL_3C_FB0, W5 LVDS3C_15n/PLL_3C_CLKOUT0n, W6 LVDS3C_16p, W7 LVDS3C_16n, Y1 LVDS3C_23p, Y2 LVDS3C_23n, Y3 LVDS3C_19p, Y4 LVDS3C_19n, Y6 LVDS3C_13p/CLK_3C_0p, Y7 LVDS3C_13n/CLK_3C_0n, Y8 LVDS3C_14p, Y9 LVDS3C_14n
part N pins: AB5 LVDS3B_5n, AB6 LVDS3B_5p, AB7 LVDS3B_4n, AB8 LVDS3B_4p, AB10 LVDS3B_1p, AB11 LVDS3B_1n, AC4 LVDS3B_6p, AC5 LVDS3B_6n, AC7 LVDS3B_7n, AC8 LVDS3B_10p/PLL_3B_CLKOUT1p,PLL_3B_CLKOUT1,PLL_3B_FB1, AC9 LVDS3B_9p, AC10 LVDS3B_9n, AD1 LVDS3B_2n, AD2 LVDS3B_2p, AD4 LVDS3B_3n, AD5 LVDS3B_8p, AD6 LVDS3B_8n, AD7 LVDS3B_7p, AD9 LVDS3B_10n/PLL_3B_CLKOUT1n, AD10 LVDS3B_12p/CLK_3B_1p, AD11 LVDS3B_12n/CLK_3B_1n, AE1 LVDS3B_16n, AE2 LVDS3B_13p/CLK_3B_0p, AE3 LVDS3B_13n/CLK_3B_0n, AE4 LVDS3B_3p, AE6 LVDS3B_11p/RZQ_3B, AE7 LVDS3B_11n, AF1 LVDS3B_16p, AF3 LVDS3B_15n/PLL_3B_CLKOUT0n, AF4 LVDS3B_15p/PLL_3B_CLKOUT0p,PLL_3B_CLKOUT0,PLL_3B_FB0, AF5 LVDS3B_14n, AF6 LVDS3B_17n, AG1 LVDS3B_19p, AG2 LVDS3B_19n, AG3 LVDS3B_18n, AG5 LVDS3B_14p, AG6 LVDS3B_17p, AH2 LVDS3B_20n, AH3 LVDS3B_18p, AH4 LVDS3B_21n, AJ1 LVDS3B_20p, AJ2 LVDS3B_23n, AJ4 LVDS3B_21p, AK1 LVDS3B_24n, AK2 LVDS3B_23p, AK3 LVDS3B_22n, AK4 LVDS3B_22p, AL1 LVDS3B_24p
part O pins: AE8 LVDS3A_2n, AE9 LVDS3A_1n, AE11 LVDS3A_6n, AE12 LVDS3A_6p, AF8 LVDS3A_2p, AF9 LVDS3A_1p, AF10 LVDS3A_4n, AF11 LVDS3A_5p, AG7 LVDS3A_8n, AG8 LVDS3A_7n, AG10 LVDS3A_4p, AG11 LVDS3A_5n, AH5 LVDS3A_10n/PLL_3A_CLKOUT1n, AH7 LVDS3A_8p, AH8 LVDS3A_7p, AH9 LVDS3A_3n, AH10 LVDS3A_3p, AJ5 LVDS3A_10p/PLL_3A_CLKOUT1p,PLL_3A_CLKOUT1,PLL_3A_FB1, AJ6 LVDS3A_11n, AJ7 LVDS3A_11p/RZQ_3A, AJ9 LVDS3A_12p/CLK_3A_1p, AK6 LVDS3A_14n, AK7 LVDS3A_9p, AK8 LVDS3A_9n, AK9 LVDS3A_12n/CLK_3A_1n, AL3 LVDS3A_15n/PLL_3A_CLKOUT0n, AL4 LVDS3A_13n/CLK_3A_0n, AL5 LVDS3A_13p/CLK_3A_0p, AL6 LVDS3A_14p, AL8 LVDS3A_23n, AL9 LVDS3A_23p, AM1 LVDS3A_16p, AM2 LVDS3A_16n, AM3 LVDS3A_15p/PLL_3A_CLKOUT0p,PLL_3A_CLKOUT0,PLL_3A_FB0, AM5 LVDS3A_17n, AM6 LVDS3A_17p, AM7 LVDS3A_24n, AM8 LVDS3A_21n, AN4 LVDS3A_18n, AN5 LVDS3A_19n, AN7 LVDS3A_24p, AN8 LVDS3A_21p, AN9 LVDS3A_22n, AP4 LVDS3A_18p, AP5 LVDS3A_19p, AP6 LVDS3A_20n, AP7 LVDS3A_20p, AP9 LVDS3A_22p
part P pins: AE14 nIO_PULLUP, AF13 nCONFIG, AF14 nCE, AF15 AS_DATA3, AG12 MSEL2, AG13 MSEL1, AG15 MSEL0, AH12 TCK, AH13 TDI, AJ10 DCLK, AJ11 AS_DATA0,ASDO, AJ12 TDO, AK11 AS_DATA2, AK12 AS_DATA1, AL10 TMS, AL11 TRST, AM10 nCSO1, AM11 nSTATUS, AM12 CONF_DONE, AN10 nCSO0, AP10 nCSO2
part Q pins: A15 GPIO2_IO9,NAND_CE_N,UART1_RTS_N,SDMMC_DATA5,SPIM0_MISO,EMAC1_MDC,I2C_EMAC1_SCL, A16 GPIO2_IO5,NAND_ADQ3,SDMMC_DATA3,QSPI_IO3_HOLD, B15 GPIO2_IO0,NAND_ADQ0,SDMMC_DATA0,QSPI_CLK, B16 HPS_CLK1, B17 GPIO2_IO3,NAND_RE_N,SDMMC_DATA1,QSPI_IO1, C15 GPIO2_IO10,NAND_ADQ4,UART1_CTS_N,SDMMC_DATA6,SPIM0_SS0_N,EMAC2_MDIO,I2C_EMAC2_SDA, C17 GPIO2_IO1,NAND_ADQ1,SDMMC_CMD,QSPI_IO0, D15 GPIO2_IO2,NAND_WE_N,SDMMC_CCLK,QSPI_SS0,BOOTSEL2, D16 GPIO2_IO4,NAND_ADQ2,SDMMC_DATA2,QSPI_IO2_WPN, E16 GPIO2_IO7,NAND_ALE,QSPI_SS1,SPIM0_CLK,BOOTSEL0, F15 GPIO2_IO12,NAND_ADQ6,UART1_TX,QSPI_SS2,SPIS0_MOSI,EMAC0_MDIO,I2C_EMAC0_SDA, F16 GPIO2_IO11,NAND_ADQ5,UART1_RX,SDMMC_DATA7,SPIS0_CLK,EMAC2_MDC,I2C_EMAC2_SCL, G15 GPIO2_IO6,NAND_CLE,SDMMC_PWR_ENA,SPIM0_SS1_N,SPIS0_MISO,BOOTSEL1, G16 GPIO2_IO8,NAND_RB,UART1_TX,SDMMC_DATA4,SPIM0_MOSI,EMAC1_MDIO,I2C_EMAC1_SDA, H15 GPIO2_IO13,NAND_ADQ7,UART1_RX,QSPI_SS3,SPIS0_SS0_N,EMAC0_MDC,I2C_EMAC0_SCL, K14 HPS_nPOR, L14 HPS_nRST
part R pins: A7 GND, A12 GND, A17 GND, A22 GND, A27 GND, A28 GND, A30 GND, A31 GND, A32 GND, A33 GND, AA2 GND, AA12 GND, AA17 GND, AA22 GND, AA25 GND, AA26 GND, AA31 GND, AA32 GND, AB4 GND, AB19 GND, AB26 GND, AB29 GND, AB30 GND, AB33 GND, AB34 GND, AC1 GND, AC11 GND, AC16 GND, AC25 GND, AC31 GND, AC32 GND, AD3 GND, AD13 GND, AD18 GND, AD21 GND, AD23 GND, AD26 GND, AD29 GND, AD30 GND, AD33 GND, AD34 GND, AE5 GND, AE13 GND, AE15 GND, AE26 GND, AE31 GND, AE32 GND, AF2 GND, AF7 GND, AF26 GND, AF29 GND, AF30 GND, AF33 GND, AF34 GND, AG4 GND, AG14 GND, AG19 GND, AG26 GND, AG27 GND, AG28 GND, AG31 GND, AG32 GND, AH1 GND, AH6 GND, AH11 GND, AH21 GND, AH28 GND, AH29 GND, AH30 GND, AH33 GND, AH34 GND, AJ3 GND, AJ8 GND, AJ13 GND, AJ18 GND, AJ28 GND, AJ31 GND, AJ32 GND, AK5 GND, AK10 GND, AK25 GND, AK28 GND, AK29 GND, AK30 GND, AK33 GND, AK34 GND, AL2 GND, AL7 GND, AL12 GND, AL17 GND, AL22 GND, AL28 GND, AL31 GND, AL32 GND, AM4 GND, AM9 GND, AM14 GND, AM19 GND, AM24 GND, AM28 GND, AM29 GND, AM30 GND, AM33 GND, AM34 GND, AN6 GND, AN11 GND, AN16 GND, AN21 GND, AN26 GND, AN30 GND, AN31 GND, AN32 GND, AP8 GND, AP11 GND, AP13 GND, AP18 GND, AP23 GND, AP28 GND, AP30 GND, AP33 GND, B2 GND, B4 GND, B9 GND, B14 GND, B19 GND, B24 GND, B28 GND, B29 GND, B30 GND, B33 GND, B34 GND, C1 GND, C6 GND, C11 GND, C16 GND, C21 GND, C26 GND, C28 GND, C31 GND, C32 GND
part S pins: D3 GND, D8 GND, D13 GND, D18 GND, D23 GND, D28 GND, D29 GND, D30 GND, D33 GND, D34 GND, E5 GND, E10 GND, E15 GND, E20 GND, E25 GND, E28 GND, E31 GND, E32 GND, F2 GND, F7 GND, F27 GND, F28 GND, F29 GND, F30 GND, F33 GND, F34 GND, G4 GND, G9 GND, G14 GND, G28 GND, G31 GND, G32 GND, H1 GND, H6 GND, H16 GND, H21 GND, H26 GND, H28 GND, H29 GND, H30 GND, H33 GND, H34 GND, J3 GND, J8 GND, J28 GND, J31 GND, J32 GND, K5 GND, K15 GND, K20 GND, K26 GND, K27 GND, K28 GND, K29 GND, K30 GND, K33 GND, K34 GND, L2 GND, L7 GND, L12 GND, L17 GND, L22 GND, L25 GND, L31 GND, L32 GND, M4 GND, M14 GND, M19 GND, M25 GND, M26 GND, M29 GND, M30 GND, M33 GND, M34 GND, N1 GND, N6 GND, N21 GND, N26 GND, N31 GND, N32 GND, P3 GND, P13 GND, P18 GND, P23 GND, P26 GND, P29 GND, P30 GND, P33 GND, P34 GND, R5 GND, R10 GND, R15 GND, R20 GND, R25 GND, R31 GND, R32 GND, T2 GND, T12 GND, T17 GND, T22 GND, T26 GND, T29 GND, T30 GND, T33 GND, T34 GND, U4 GND, U14 GND, U19 GND, U24 GND, U26 GND, U31 GND, U32 GND, V1 GND, V6 GND, V11 GND, V16 GND, V21 GND, V25 GND, V26 GND, V29 GND, V30 GND, V33 GND, V34 GND, W3 GND, W13 GND, W18 GND, W23 GND, W25 GND, W31 GND, W32 GND, Y10 GND, Y15 GND, Y18 GNDSENSE, Y20 GND, Y25 GND, Y26 GND, Y29 GND, Y30 GND, Y33 GND, Y34 GND
part T pins: A2 NC, AA11 VCC, AA13 VCC, AA14 VCCPT, AA15 VCCPT, AA16 VCC, AA18 VCC, AA19 VCC, AA20 VCCPT, AA21 VCCPT, AA23 VCC, AA24 VCC, AB12 VCC, AB13 VCC, AB14 VCC, AB15 VCCP, AB16 VCCP, AB17 VCC, AB18 VCC, AB20 VCCP, AB21 VCC, AB22 VCCP, AB23 VCC, AB24 VCC, AB25 VCC, AC13 DNU, AC14 DNU, AC15 DNU, AC18 VCC, AC20 NC, AC21 VCC, AC22 NC, AD14 VCCBAT, AD15 VCCPGM, AD16 VCCPGM, AD20 NC, AD22 NC, AE22 NC, AF20 NC, AF21 NC, AG20 NC, AG21 NC, AG22 NC, AH20 NC, AH22 NC, AN1 NC, AN2 NC, AN3 NC, AN28 DNU, AN29 DNU, AP2 NC, AP3 NC, B1 NC, C2 NC, J15 VCCPLL_HPS, L15 VCCL_HPS, L16 VCCL_HPS, M15 VCCL_HPS, M16 VCCL_HPS, N12 VCC, N13 VCC, N14 VCCP, N15 VCCP, N16 VCC, N17 VCC, N18 VCC, N19 VCCP, N20 VCCP, N22 VCCP, N23 VCC, N24 VCC, N25 VCC, P11 VCC, P12 VCC, P14 VCC, P15 VCCPT, P16 VCCPT, P17 VCC, P19 VCCPT, P20 VCCPT, P21 VCCPT, P22 VCC, P24 VCC, P25 VCC, R11 VCC, R12 VCC, R13 VCC, R14 VCC, R16 VCC, R17 VCC, R18 VCC, R19 VCC, R21 VCC, R22 VCC, R23 VCC, R24 VCC, T11 VCC, T13 VCC, T14 NC, T15 NC, T16 VCCA_PLL, T18 VCCA_PLL, T19 VCC, T20 VCC, T21 VCC, T23 VCC, T24 VCC, T25 VCC, U11 VCC, U12 VCC, U13 VCCERAM, U15 VCC, U16 VCC, U17 VCCERAM, U18 VCCERAM, U20 VCC, U21 VCC, U22 VCCERAM, U23 VCCERAM, U25 VCC, V12 VCC, V13 VCC, V14 VCC, V15 VCC, V17 VCC, V18 VCC, V19 VCC, V20 VCC, V22 VCC, V23 VCC, V24 VCC, W11 VCC, W12 VCC, W14 VCC, W15 VCC, W16 VCC, W17 VCC, W19 VCC, W20 VCC, W21 VCC, W22 VCC, W24 VCC, Y11 VCC, Y12 VCC, Y13 VCC, Y14 VCC, Y16 VCC, Y17 VCCLSENSE, Y19 VCC, Y21 VCC, Y22 VCC, Y23 VCC, Y24 VCC
part U pins: AA7 VCCIO3C, AA10 VREFB3CN0, AB9 VCCIO3B, AC6 VCCIO3B, AC12 VREFB3BN0, AC19 VREFB2AN0, AC23 VREFB2JN0, AD8 VCCIO3B, AD12 VREFB3AN0, AE10 VCCIO3A, AE20 VCCIO2I, AE21 VREFB2IN0, AE25 VCCIO2J, AF12 VCCIO3A, AF17 VCCIO2A, AF22 VCCIO2I, AG9 VCCIO3A, AG24 VCCIO2J, AH16 VCCIO2A, AJ23 VCCIO2J, AK15 VCCIO2A, AK20 VCCIO2I, F12 VCCIO3F, F17 VCCIO2L, F22 VCCIO2K, G19 VCCIO2L, G24 VCCIO2K, H11 VCCIO3F, J13 VCCIO3F, J16 VCCIO_HPS, J18 VCCIO2L, J23 VCCIO2K, K10 VCCIO3E, K16 VCCIOREF_HPS, K17 VREFB2LN0, M9 VCCIO3E, M12 VREFB3FN0, M22 VREFB2KN0, N11 VCCIO3E, P8 VCCIO3D, P10 VREFB3EN0, T7 VCCIO3D, U9 VCCIO3D, V10 VREFB3DN0, W8 VCCIO3C, Y5 VCCIO3C
part V pins: A29 RREF_TL, AA27 VCCR_GXBL1D, AA28 VCCR_GXBL1D, AC26 VCCH_GXBL, AC27 VCCT_GXBL1C, AC28 VCCT_GXBL1C, AE27 VCCR_GXBL1C, AE28 VCCR_GXBL1C, AP29 RREF_BL, L26 VCCH_GXBL, L27 VCCT_GXBL1F, L28 VCCT_GXBL1F, N27 VCCR_GXBL1F, N28 VCCR_GXBL1F, R26 VCCH_GXBL, R27 VCCT_GXBL1E, R28 VCCT_GXBL1E, U27 VCCR_GXBL1E, U28 VCCR_GXBL1E, W26 VCCH_GXBL, W27 VCCT_GXBL1D, W28 VCCT_GXBL1D
part W pins: A13 VREFP_ADC, A14 ADCGND, B13 VREFN_ADC, C14 TEMPDIODEn, D14 TEMPDIODEp, E14 VSIGP_0, F14 VSIGN_0, H14 VSIGP_1, J14 VSIGN_1
part A text: BANK 1F
part B text: BANK 1E
part C text: BANK 1D
part D text: BANK 1C
part E text: BANK 2L
part F text: BANK 2K
part G text: BANK 2J
part H text: BANK 2I
part I text: BANK 2A
part J text: BANK 3F
part K text: BANK 3E
part L text: BANK 3D
part M text: BANK 3C
part N text: BANK 3B
part O text: BANK 3A
part P text: Configuration
part Q text: HPS
part R text: GND1
part S text: GND2
part T text: Power Core
part U text: Power VCCIO
part V text: Power XCVR
part W text: ADC